# Altium integrated library 500ASSP3M6QE.IntLib: 1 symbol
Pins are listed as number, name and electrical type; pins without a type are passive.

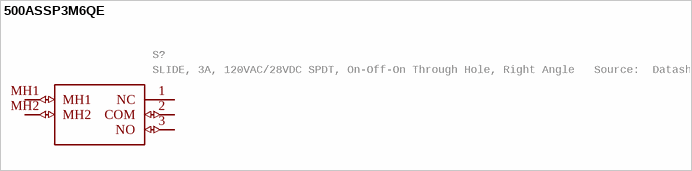
[diagram p0: symbol 500ASSP3M6QE]

## 500ASSP3M6QE
designator S?, comment SLIDE, 3A, 120VAC/28VDC SPDT, On-Off-On Through Hole, Right Angle   Source:  Datasheet
Manufacturer_Name: E-Switch; GateName_1: G$1; SymbolName_1: 500ASSP3M6QE; LibraryName: 500ASSP3M6QE; DeviceSetName: 500ASSP3M6QE; Package: 500ASSP3M6QE; Mouser_Part_Number: 612-500ASSP3M6QE; Mouser_Price-Stock: https://www.mouser.co.uk/ProductDetail/E-Switch/500ASSP3M6QE?qs=f57gQzlyLioIt65BtskIDQ%3D%3D; Manufacturer_Part_Number: 500ASSP3M6QE; Description: SLIDE, 3A, 120VAC/28VDC SPDT, On-Off-On Through Hole, Right Angle; Height: 5.59mm
footprint 500ASSP3M6QE
pins: 1 NC, 2 COM (io), 3 NO (io), MH1 (io), MH2 (io)